# EAGLE library part ACS711?-* (library ic-Allegro)
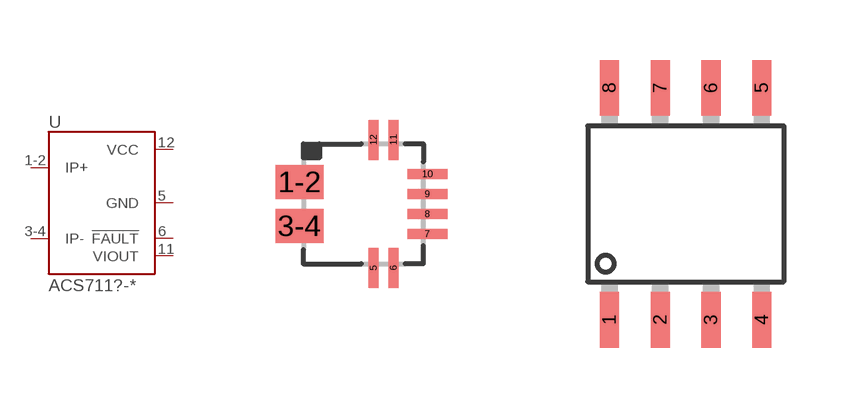
[diagram p1: symbol with the pads of QFN12; footprints QFN12, SOP8]

Designator prefix U

## ACS711EX-15, ACS711EX-31  [QFN12]
1-2  IP+
3-4  IP-
5  GND
6  !FAULT
11  VIOUT
12  VCC

## ACS711LC-12, ACS711LC-25  [SOP8]
1  IP+
2  IP+
3  IP-
4  IP-
5  GND
6  !FAULT
7  VIOUT
8  VCC

## Footprint QFN12 (pad centres in mm)
smd 1.2 x 0.85: 1-2 -1.6,0.55; 3-4 -1.6,-0.55
smd 0.25 x 1: 5 0.25,-1.6; 6 0.75,-1.6; 11 0.75,1.6; 12 0.25,1.6
smd 1 x 0.25: 7 1.6,-0.75; 8 1.6,-0.25; 9 1.6,0.25; 10 1.6,0.75

## Footprint SOP8 (pad centres in mm)
smd 0.48 x 1.4: 1 -1.905,-2.9; 2 -0.635,-2.9; 3 0.635,-2.9; 4 1.905,-2.9; 5 1.905,2.9; 6 0.635,2.9; 7 -0.635,2.9; 8 -1.905,2.9